# EAGLE library part MOTOR_HOUSING (library modular_robotics)
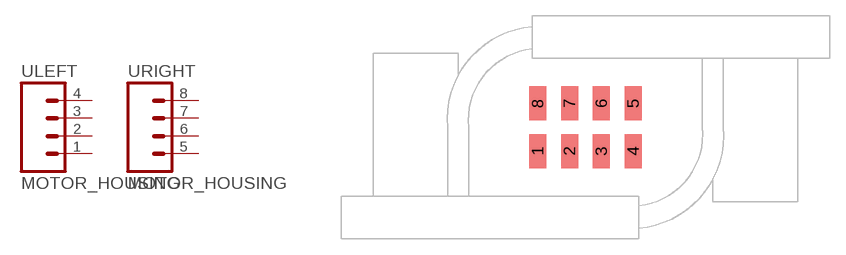
[diagram p4: symbol with the pads of MOTOR_HOUSING; footprint MOTOR_HOUSING]

Designator prefix -; gates RIGHT=M04 LEFT=M04

## MOTOR_HOUSING  [MOTOR_HOUSING]
1  LEFT:1  pas
2  LEFT:2  pas
3  LEFT:3  pas
4  LEFT:4  pas
5  RIGHT:1  pas
6  RIGHT:2  pas
7  RIGHT:3  pas
8  RIGHT:4  pas

## Footprint MOTOR_HOUSING (pad centres in mm)
smd 1.6 x 3.2: 1 -4.5,-2.25; 2 -1.5,-2.25; 3 1.5,-2.25; 4 4.5,-2.25; 5 4.5,2.25; 6 1.5,2.25; 7 -1.5,2.25; 8 -4.5,2.25